# EAGLE library part MCP73841 (library mcp73841)
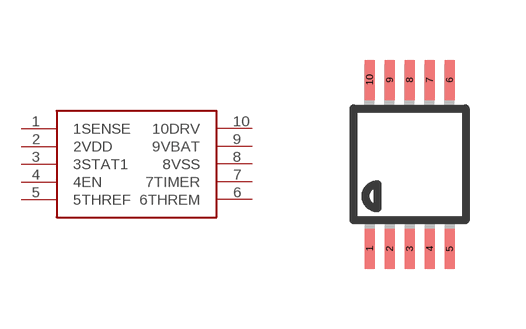
[diagram p0: symbol with the pads of MSOP10; footprint MSOP10]

Designator prefix -

## MCP73841  [MSOP10]
1  1SENSE
2  2VDD
3  3STAT1
4  4EN
5  5THREF
6  6THREM
7  7TIMER
8  8VSS
9  9VBAT
10  10DRV

## Footprint MSOP10 (pad centres in mm)
smd 0.25 x 1: 1 -1,-2.113; 2 -0.5,-2.113; 3 0,-2.113; 4 0.5,-2.113; 5 1,-2.113; 6 1,2.113; 7 0.5,2.113; 8 0,2.113; 9 -0.5,2.113; 10 -1,2.113